# Altium schematic symbol library IC_Texas_Instruments_LP5907MFX-3.3-NOPB.SchLib: 1 symbol
Pins are listed as number, name and electrical type; pins without a type are passive.

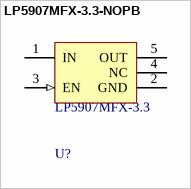
[diagram p0: symbol LP5907MFX-3.3-NOPB]

## LP5907MFX-3.3-NOPB
designator U?  Model: LP5907MFX-3.3  (hidden comment: *)
Manufacturer: Texas Instruments; HelpURL: https://www.digikey.com/product-detail/en/texas-instruments/LP5907MFX-3.3-NOPB/296-38557-1-ND/5034443; Package: SOT-23
footprint Texas_Instruments_DBV0005A_0
pins: 1 IN (power), 2 GND (power), 3 EN (in), 4 NC, 5 OUT (power)